# Altium footprint library DIOMELF345X140L40N.PcbLib: 1 footprints
Each footprint in its own frame and in the unit in brackets; x right, y up, seen from the top. Pads: shape width x height; smd on the part's side, far side on the other; paste and mask are expansions set on the pad; w line width, h text height; cw(c..) or ccw(c..) is an arc to the next point about the centre after c.
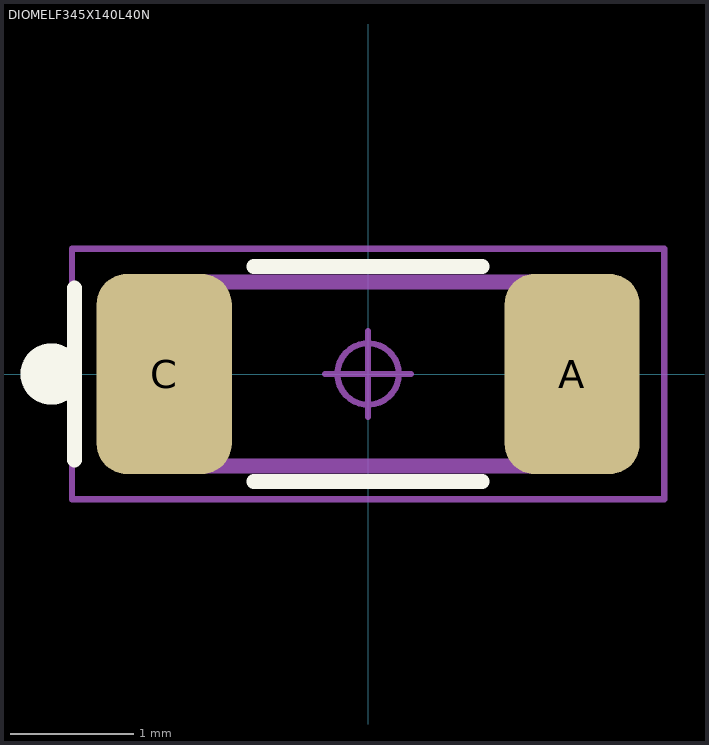
[diagram p0: the footprint, top view; thin cyan lines are the x and y axes]

## DIOMELF345X140L40N [mm] "Diode, Metal Electrode Leadless Face (MELF); 3.45 mm L X 1.40 mm Dia body"
height 1.5
pads (2):
  rrect45% 1.1x1.63 smd: A(1.66,0) C(-1.66,0)
Top Overlay:
  circle w0.25: c-2.58,0 r0.125
  lines w0.12: -2.39,-0.7 -2.39,0.7 ; -0.93,-0.875 0.93,-0.875 ; -0.93,0.875 0.93,0.875
Mechanical 11:
  lines w0.12: -1.8,-0.75 1.8,-0.75 1.8,0.75 -1.8,0.75 -1.8,-0.75
Mechanical 12:
  lines w0.025: -1.725,-0.7 1.725,-0.7 ; -1.725,-0.7 -1.725,0.7 ; -1.725,-0.7 -1.725,0.7 ; -1.725,-0.7 -1.325,-0.7 -1.325,0.7 -1.725,0.7 ; -1.725,0.7 1.725,0.7 ; 1.725,-0.7 1.725,0.7 ; 1.725,-0.7 1.325,-0.7 1.325,0.7 1.725,0.7 ; 1.725,-0.7 1.725,0.7
Mechanical 15:
  circle w0.05: c0,0 r0.25
  lines w0.05: -0.35,0 0.35,0 ; 0,-0.35 0,0.35 ; -2.41,-1.02 2.41,-1.02 2.41,1.02 -2.41,1.02 -2.41,-1.02
Mechanical 16:
  text ".Designator" at 0,0 h1.2
3D body: height 1.4, standoff 0, extent -1.725,-0.7 1.725,0.7